# EAGLE library part NRF51822-QFAA (library SmartNodeLib)
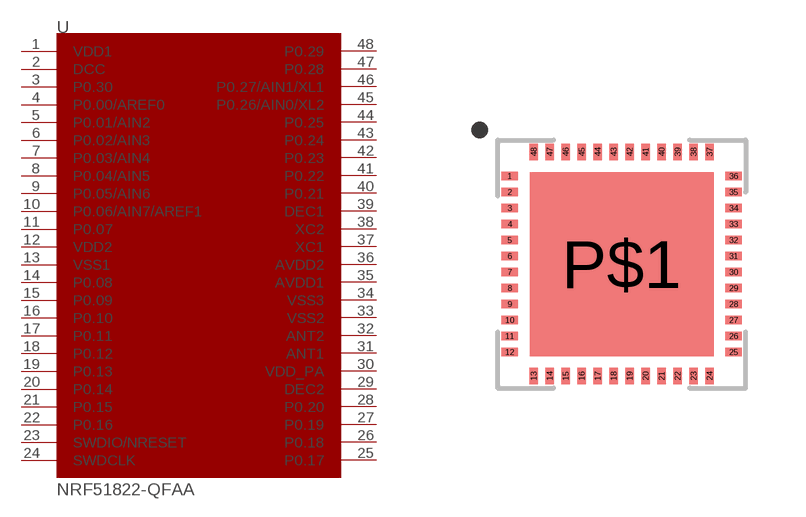
[diagram p0: symbol with the pads of QFN48; footprint QFN48]

Designator prefix U

## NRF51822-QFAA  [QFN48]
1  VDD1  pwr
2  DCC  pwr
3  P0.30
4  P0.00/AREF0
5  P0.01/AIN2
6  P0.02/AIN3
7  P0.03/AIN4
8  P0.04/AIN5
9  P0.05/AIN6
10  P0.06/AIN7/AREF1
11  P0.07
12  VDD2  pwr
13  VSS1  pwr
14  P0.08
15  P0.09
16  P0.10
17  P0.11
18  P0.12
19  P0.13
20  P0.14
21  P0.15
22  P0.16
23  SWDIO/NRESET
24  SWDCLK
25  P0.17
26  P0.18
27  P0.19
28  P0.20
29  DEC2
30  VDD_PA  pwr
31  ANT1
32  ANT2
33  VSS2
34  VSS3
35  AVDD1  pwr
36  AVDD2  pwr
37  XC1
38  XC2
39  DEC1
40  P0.21
41  P0.22
42  P0.23
43  P0.24
44  P0.25
45  P0.26/AIN0/XL2
46  P0.27/AIN1/XL1
47  P0.28
48  P0.29

## Footprint QFN48 (pad centres in mm)
smd 0.406 x 0.203: 1 -2.8,2.2; 2 -2.8,1.8; 3 -2.8,1.4; 4 -2.8,1; 5 -2.8,0.6; 6 -2.8,0.2; 7 -2.8,-0.2; 8 -2.8,-0.6; 9 -2.8,-1; 10 -2.8,-1.4; 11 -2.8,-1.8; 12 -2.8,-2.2; 25 2.8,-2.2; 26 2.8,-1.8; 27 2.8,-1.4; 28 2.8,-1; 29 2.8,-0.6; 30 2.8,-0.2; 31 2.8,0.2; 32 2.8,0.6; 33 2.8,1; 34 2.8,1.4; 35 2.8,1.8; 36 2.8,2.2
smd 0.203 x 0.406: 13 -2.2,-2.8; 14 -1.8,-2.8; 15 -1.4,-2.8; 16 -1,-2.8; 17 -0.6,-2.8; 18 -0.2,-2.8; 19 0.2,-2.8; 20 0.6,-2.8; 21 1,-2.8; 22 1.4,-2.8; 23 1.8,-2.8; 24 2.2,-2.8; 37 2.2,2.8; 38 1.8,2.8; 39 1.4,2.8; 40 1,2.8; 41 0.6,2.8; 42 0.2,2.8; 43 -0.2,2.8; 44 -0.6,2.8; 45 -1,2.8; 46 -1.4,2.8; 47 -1.8,2.8; 48 -2.2,2.8
smd 4.6 x 4.6: P$1 0,0